# EAGLE library part LM358 (library mECustom)
LM358 Jellybean op-amp Package: DIP08 - SOCKET Dual In Line
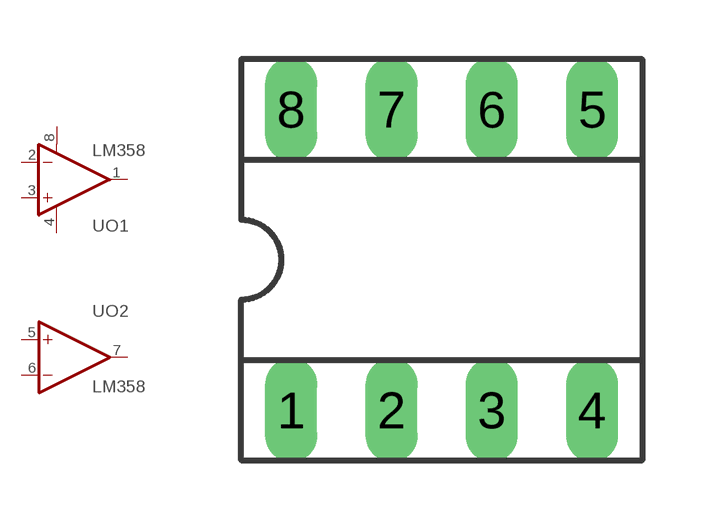
[diagram p2: symbol with the pads of SOCKET08; footprint SOCKET08]

Designator prefix -; gates O1=OPAMP+- O2=OPAMP

## LM358  [SOCKET08]
1  O1:OUT  out
2  O1:-IN  in
3  O1:+IN  in
4  O1:V-  pwr
5  O2:+IN  in
6  O2:-IN  in
7  O2:OUT  out
8  O1:V+  pwr

## Footprint SOCKET08 (pad centres in mm)
drill 0.813 long: 1 -3.81,-3.81; 2 -1.27,-3.81; 3 1.27,-3.81; 4 3.81,-3.81; 5 3.81,3.81; 6 1.27,3.81; 7 -1.27,3.81; 8 -3.81,3.81